# Altium footprint library Audio-Power-amlifier.PCBLIB: 50 footprints (part 1 of 4)
Each footprint in its own frame and in the unit in brackets; x right, y up, seen from the top. Pads: shape width x height; smd on the part's side, far side on the other; paste and mask are expansions set on the pad; w line width, h text height; cw(c..) or ccw(c..) is an arc to the next point about the centre after c.
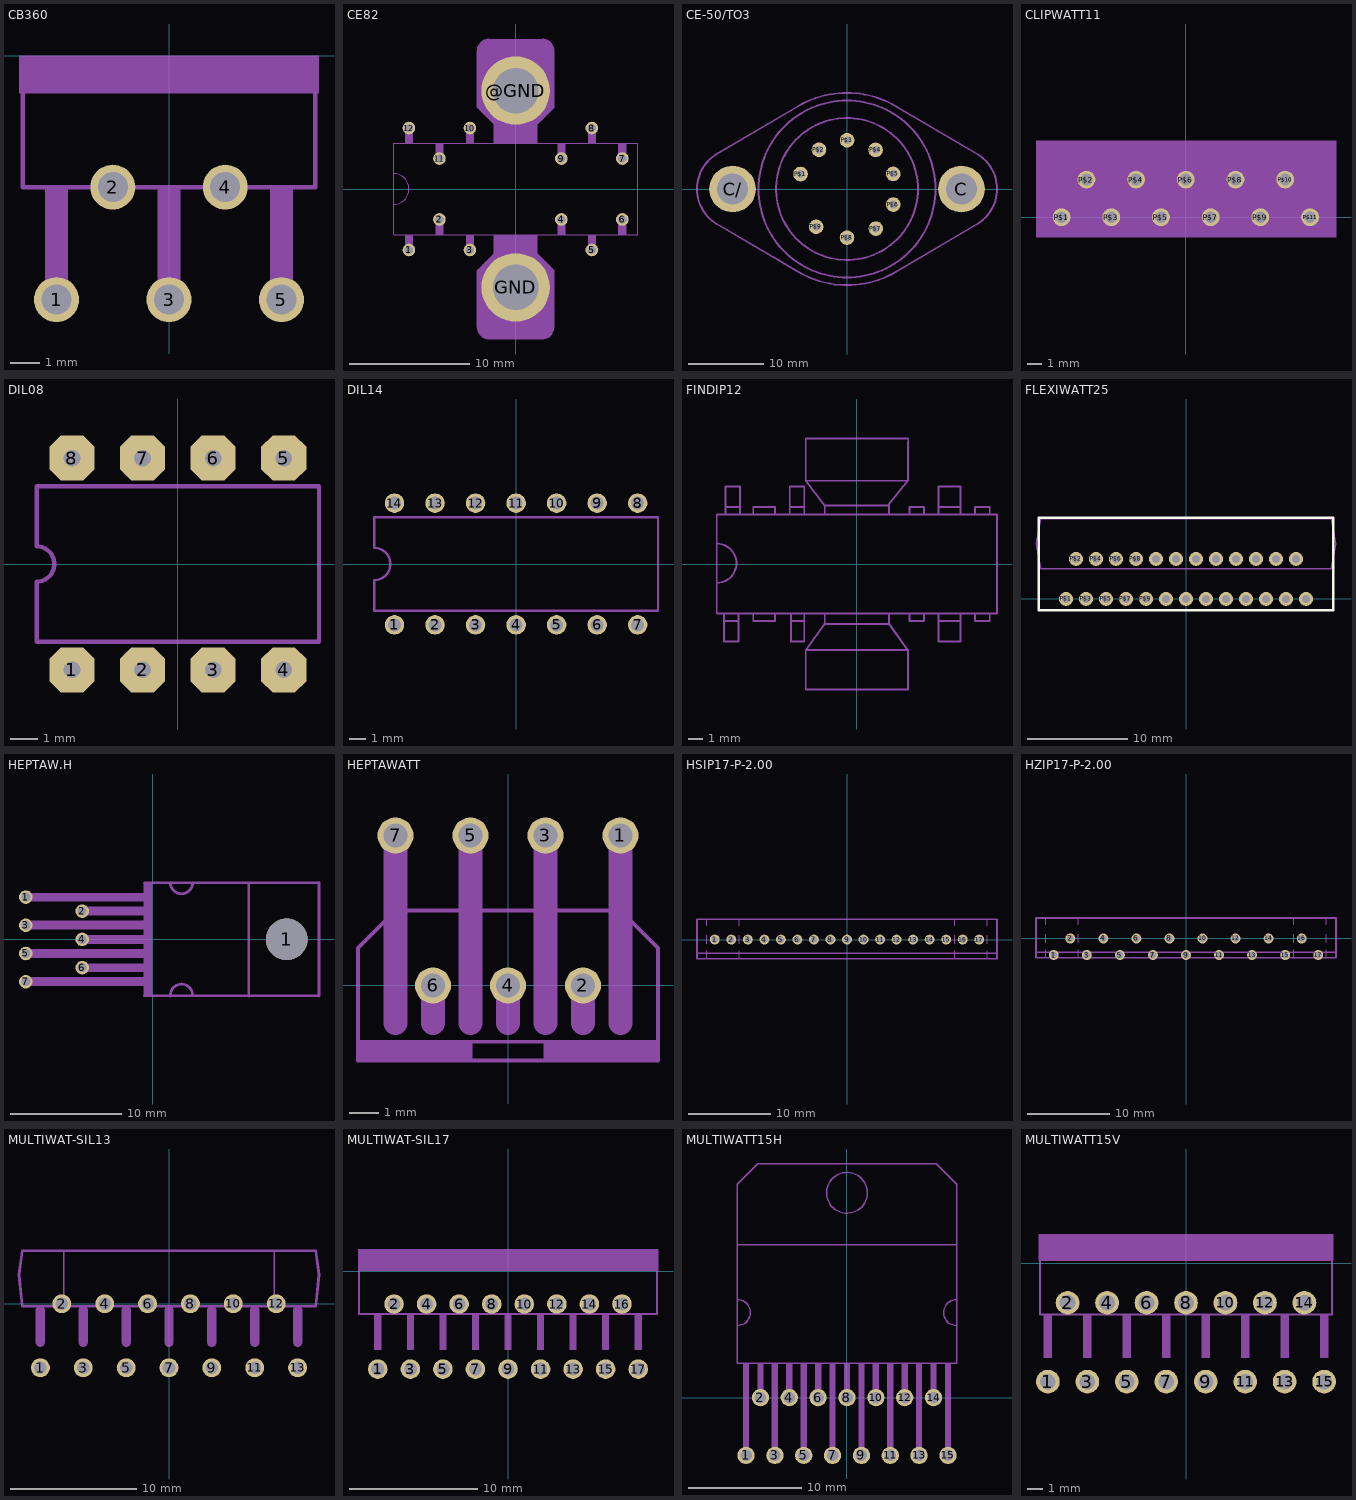
[diagram p0: the footprints below, top view; thin cyan lines are the x and y axes]

## CB360 [mil]
pads (5):
  round 60 hole 40: 1(-150,-325) 2(-75,-175) 3(0,-325) 4(75,-175) 5(150,-325)
Mechanical 8:
  region: -165,-330 -165,-275 -135,-275 -135,-330
  region: -15,-330 -15,-275 15,-275 15,-330
  region: 135,-330 135,-275 165,-275 165,-330
  lines w6: -125,-175 -25,-175 ; 25,-175 125,-175
Mechanical 22:
  region: -200,-50 -200,0 200,0 200,-50
  region: -165,-275 -165,-175 -135,-175 -135,-275
  region: -15,-275 -15,-175 15,-175 15,-275
  region: 135,-275 135,-175 165,-175 165,-275
  lines w6: -195,-50 -195,-175 -125,-175 ; -25,-175 25,-175 ; 125,-175 195,-175 195,-50

## CE82 [mil]
pads (18):
  round 41.34 / inner round 60 / far side round 41.34 hole 27.56: 1(-350,-200) 2(-250,-100) 3(-150,-200) 4(150,-100) 5(250,-200) 6(350,-100) 7(350,100) 8(250,200) 9(150,100) 10(-150,200) 11(-250,100) 12(-350,200)
  round 224.41 / inner round 60 / far side round 224.41 hole 149.61: @GND(0,322.83) GND(0,-322.83)
  round 10 / inner round 60 / far side round 10 all layers, no hole: P$1(-83.46,323.62) P$2(85.43,317.72) P$3(-81.89,-329.53) P$4(83.46,-330.32)
Mechanical 22:
  drawing of 275 lines, arcs and shapes, not listed

## CE-50/TO3 [mil]
pads (11):
  round 243 / inner round 60 / far side round 243 hole 162: C(595,0) C/(-595,0)
  round 76 / inner round 60 / far side round 76 hole 39.37: P$1(-241.73,77.95) P$2(-145.67,204.33) P$3(0.39,253.54) P$4(148.43,203.15) P$5(240.16,78.35) P$6(240.55,-80.71) P$7(150,-205.91) P$8(0,-253.15) P$9(-160.63,-196.85)
Mechanical 8:
  circle w6: c595,0 r85
  circle w6: c-595,0 r85
Mechanical 22:
  circle w10: c0,0 r369
  circle w10: c0,0 r460
  lines w10: -680,180 -250,433 ; -679,-181 -234,-442 ; -675.41,-183.35 cw(c-567,0) -780,0 cw(c-567,0) -672.94,184.78 ; -250.86,432.52 cw(c-0.01,0) 0,500 cw(c0.01,-0.01) 235.3,441.18 ; -235.3,-441.18 ccw(c-0.01,0.01) 0,-500 ccw(c0.01,0) 250.86,-432.52 ; 235,441 684,178 ; 251,-433 684,-178 ; 682.54,-178.94 ccw(c567,0) 780,0 ccw(c567,0) 682.54,178.94

## CLIPWATT11 [mil]
pads (11):
  round 47.25 / inner round 60 / far side round 47.25 hole 31.5: P$1(-330,0) P$2(-264,100) P$3(-198,0) P$4(-132,100) P$5(-66,0) P$6(0,100) P$7(66,0) P$8(132,100) P$9(198,0) P$10(264,100) P$11(330,0)
Mechanical 22:
  drawing of 91 lines, arcs and shapes, not listed
Mechanical 30:
  region: -398,-53 -398,203 399,203 399,-53

## DIL08 [mil]
pads (8):
  oct 63.9x63.9 / inner oct 60x60 / far side oct 63.9x63.9 hole 23.62: 1(-150,-150) 2(-50,-150) 3(50,-150) 4(150,-150) 5(150,150) 6(50,150) 7(-50,150) 8(-150,150)
Mechanical 22:
  lines w6: -200,-110 200,-110 200,110 -200,110 -200,25 cw(c-200,0) -200,-25 -200,-110

## DIL14 [mil]
pads (14):
  round 48 / inner round 60 / far side round 48 hole 32: 1(-300,-150) 2(-200,-150) 3(-100,-150) 4(0,-150) 5(100,-150) 6(200,-150) 7(300,-150) 8(300,150) 9(200,150) 10(100,150) 11(0,150) 12(-100,150) 13(-200,150) 14(-300,150)
Mechanical 22:
  lines w6: -350,-115 -350,-40 ccw(c-350,0) -350,40 -350,115 350,115 350,-115 -350,-115

## FINDIP12 [mil]
Mechanical 1:
  lines w5: -358.27,-208.66 -358.27,-153.54 ; -354.33,-208.66 -318.9,-208.66 -318.9,-153.54 ; 82.68,157.48 -86.61,157.48 ; 137.8,338.58 -137.8,338.58 -137.8,224.41 ; 138.58,334.65 137.8,326.77 137.8,224.41 ; -377.95,-51.18 ccw(c-377.95,1.97) -377.95,55.12 ; -377.95,-51.18 -377.95,55.12 ; -377.95,-51.18 -377.95,-133.86 -358.27,-133.86 ; -377.95,55.12 -377.95,133.86 -354.33,133.86 ; -358.27,-153.54 -318.9,-153.54 ; -358.27,-153.54 -358.27,-133.86 ; -358.27,-133.86 -318.9,-133.86 ; -354.33,133.86 -354.33,153.54 ; -354.33,133.86 -314.96,133.86 ; -354.33,153.54 -314.96,153.54 ; -354.33,153.54 -354.33,208.66 -314.96,208.66 -314.96,153.54 ; -318.9,-153.54 -318.9,-133.86 ; -318.9,-133.86 -279.53,-133.86 ; -314.96,133.86 -314.96,153.54 ; -314.96,133.86 -279.53,133.86 ; -279.53,-133.86 -279.53,-153.54 -220.47,-153.54 -220.47,-133.86 ; -279.53,-133.86 -220.47,-133.86 ; -279.53,133.86 -279.53,153.54 -220.47,153.54 -220.47,133.86 ; -279.53,133.86 -220.47,133.86 ; -220.47,-133.86 -177.17,-133.86 ; -220.47,133.86 -181.1,133.86 ; -181.1,133.86 -181.1,153.54 ; -181.1,133.86 -141.73,133.86 ; -181.1,153.54 -141.73,153.54 ; -181.1,153.54 -181.1,208.66 -141.73,208.66 -141.73,153.54 ; -177.17,-153.54 -141.73,-153.54 ; -177.17,-153.54 -177.17,-133.86 ; -177.17,-153.54 -177.17,-208.66 -141.73,-208.66 -141.73,-153.54 ; -177.17,-133.86 -141.73,-133.86 ; -141.73,-153.54 -141.73,-133.86 ; -141.73,-133.86 -86.61,-133.86 ; -141.73,133.86 -141.73,153.54 ; -141.73,133.86 -86.61,133.86 ; -137.8,-232.28 -86.61,-161.42 ; -137.8,-232.28 137.8,-232.28 ; -137.8,-232.28 -137.8,-338.58 137.8,-338.58 137.8,-232.28 ; -137.8,224.41 -86.61,157.48 ; -137.8,224.41 137.8,224.41 ; -86.61,-161.42 86.61,-161.42 ; -86.61,-161.42 -86.61,-133.86 ; -86.61,-133.86 86.61,-133.86 ; -86.61,133.86 -86.61,157.48 ; -86.61,133.86 86.61,133.86 ; 86.61,-161.42 86.61,-133.86 ; 86.61,-161.42 137.8,-232.28 ; 86.61,-133.86 141.73,-133.86 ; 86.61,133.86 86.61,161.42 137.8,224.41 ; 86.61,133.86 141.73,133.86 ; 141.73,-133.86 141.73,-153.54 181.1,-153.54 181.1,-133.86 ; 141.73,-133.86 181.1,-133.86 ; 141.73,133.86 141.73,153.54 181.1,153.54 181.1,133.86 ; 141.73,133.86 181.1,133.86 ; 181.1,-133.86 220.47,-133.86 ; 181.1,133.86 220.47,133.86 ; 220.47,-153.54 279.53,-153.54 ; 220.47,-153.54 220.47,-133.86 ; 220.47,-153.54 220.47,-208.66 279.53,-208.66 279.53,-153.54 ; 220.47,-133.86 279.53,-133.86 ; 220.47,133.86 220.47,153.54 ; 220.47,133.86 279.53,133.86 ; 220.47,153.54 279.53,153.54 ; 220.47,153.54 220.47,208.66 279.53,208.66 279.53,153.54 ; 279.53,-153.54 279.53,-133.86 ; 279.53,-133.86 318.9,-133.86 ; 279.53,133.86 279.53,153.54 ; 279.53,133.86 318.9,133.86 ; 318.9,-133.86 318.9,-153.54 358.27,-153.54 358.27,-133.86 ; 318.9,-133.86 358.27,-133.86 ; 318.9,133.86 318.9,153.54 358.27,153.54 358.27,133.86 ; 318.9,133.86 358.27,133.86 ; 358.27,-133.86 377.95,-133.86 377.95,133.86 358.27,133.86

## FLEXIWATT25 [mm]
pads (25):
  round 1.4 / inner round 1.524 / far side round 1.219 hole 0.813: P$1(-12,0) P$2(-11,4) P$3(-10,0) P$4(-9,4) P$5(-8,0) P$6(-7,4) P$7(-6,0) P$8(-5,4) P$9(-4,0) P$10(-3,4) P$11(-2,0) P$12(-1,4) P$13(0,0) P$14(1,4) P$15(2,0) P$16(3,4) P$17(4,0) P$18(5,4) P$19(6,0) P$20(7,4) P$21(8,0) P$22(9,4) P$23(10,0) P$24(11,4) P$25(12,0)
Top Overlay:
  lines w0.254: -14.732,-1.143 14.732,-1.143 14.732,8.128 -14.732,8.128 -14.732,-1.143
Mechanical 22:
  lines w0.127: -15,5.5 -14.5,3 14.5,3 15,5.5 14.5,8 -14.5,8 -15,5.5
3D body "User Library-TDA7850-2.STEP": height 19.7, standoff -2.77, extent -14.605,-0.16 14.625,8.034

## HEPTAW.H [mil]
pads (8):
  round 48 / inner round 60 / far side round 48 hole 32: 1(-450,150) 2(-250,100) 3(-450,50) 4(-250,0) 5(-450,-50) 6(-250,-100) 7(-450,-150)
  round 147.64 hole 147.64 unplated: 1(474.41,0)
Mechanical 1:
  lines w10: 62.2,-200.79 cw(c101.57,-198.03) 140.94,-195.28 ; 62.2,200.79 ccw(c101.57,200.79) 140.94,200.79 ; 339.76,-201.18 339.76,198.82 ; 588.98,-198.43 588.98,201.57
Mechanical 22:
  region: -4.72,-200 -29.72,-200 -29.72,-175 -4.72,-175
  region: -4.72,175 -29.72,175 -29.72,200 -4.72,200
  region: -4.72,50 -29.72,50 -29.72,175 -4.72,175
  region: -4.72,-200 -29.72,-200 -29.72,-50 -4.72,-50
  region: -4.72,-62.99 -29.72,-62.99 -29.72,62.01 -4.72,62.01
  lines w5: -29.72,-175 -29.72,-200 -4.72,-200 -4.72,-175 ; -29.72,-175 -29.72,-50 ; -29.72,-175 -4.72,-175 ; -29.72,-50 -29.72,50 ; -29.72,-50 -20.87,-50 -4.72,-50 ; -29.72,50 -29.72,175 ; -29.72,50 -4.72,50 -4.72,-50 ; -29.72,175 -29.72,200 -4.72,200 -4.72,175 ; -29.72,175 -4.72,175 ; -4.72,-175 -4.72,-50 ; -4.72,-50 -4.72,175
  lines w10: -29.72,-200 588.98,-200.39 ; -29.72,200 588.58,201.57
  lines w32: -450,-150 -23.62,-149.21 ; -450,-50 -20.87,-50 ; -450,50 -25.2,50.79 ; -450,150 -24.02,148.82 ; -250,-100 -25.2,-101.18 ; -250,0 -23.23,0 ; -250,100 -25.2,101.18

## HEPTAWATT [mil]
pads (7):
  round 48 / inner round 60 / far side round 48 hole 32: 1(150,200) 2(100,0) 3(50,200) 4(0,0) 5(-50,200) 6(-100,0) 7(-150,200)
Mechanical 22:
  region: -200,-100 -200,-75 -175,-75 -175,-100
  region: 175,-100 175,-75 200,-75 200,-100
  region: 50,-100 50,-75 175,-75 175,-100
  region: -200,-100 -200,-75 -50,-75 -50,-100
  lines w5: -200,-75 -200,-100 -175,-100 ; -200,-75 -200,50 -150,100 150,100 200,50 200,-75 ; -200,-75 -175,-75 ; -175,-100 -50,-100 ; -175,-100 -175,-75 ; -175,-75 -50,-75 ; -50,-100 175,-100 ; -50,-100 -50,-75 ; -50,-100 50,-100 50,-75 ; -50,-75 50,-75 ; 50,-75 175,-75 ; 175,-100 200,-100 200,-75 ; 175,-100 175,-75 ; 175,-75 200,-75
  lines w32: -150,-50 -150,200 ; -100,-50 -100,0 ; -50,-50 -50,200 ; 0,-50 0,0 ; 50,-50 50,200 ; 100,-50 100,0 ; 150,-50 150,200

## HSIP17-P-2.00 [mil]
pads (17):
  round 47.24 / inner round 60 / far side round 47.24 hole 31.5: 1(-629.92,0) 2(-551.18,0) 3(-472.44,0) 4(-393.7,0) 5(-314.96,0) 6(-236.22,0) 7(-157.48,0) 8(-78.74,0) 9(0,0) 10(78.74,0) 11(157.48,0) 12(236.22,0) 13(314.96,0) 14(393.7,0) 15(472.44,0) 16(551.18,0) 17(629.92,0)
Mechanical 22:
  lines w4: -667.32,-88.58 -667.32,-53.15 ; -667.32,-20.67 -667.32,20.67 ; -667.32,65.94 -667.32,93.5 ; -513.78,-88.58 -513.78,-53.15 ; -513.78,-20.67 -513.78,20.67 ; -513.78,65.94 -513.78,93.5 ; 513.78,-88.58 513.78,-53.15 ; 513.78,-20.67 513.78,20.67 ; 513.78,65.94 513.78,93.5 ; 667.32,-88.58 667.32,-53.15 ; 667.32,-20.67 667.32,20.67 ; 667.32,65.94 667.32,93.5
  lines w8: -714.57,-64.96 -714.57,-91.54 714.57,-91.54 714.57,-64.96 ; -714.57,-64.96 -714.57,97.44 714.57,97.44 714.57,-64.96 ; -714.57,-64.96 714.57,-64.96

## HZIP17-P-2.00 [mil]
pads (17):
  round 47.24 / inner round 60 / far side round 47.24 hole 31.5: 1(-629.92,-78.74) 2(-551.18,0) 3(-472.44,-78.74) 4(-393.7,0) 5(-314.96,-78.74) 6(-236.22,0) 7(-157.48,-78.74) 8(-78.74,0) 9(0,-78.74) 10(78.74,0) 11(157.48,-78.74) 12(236.22,0) 13(314.96,-78.74) 14(393.7,0) 15(472.44,-78.74) 16(551.18,0) 17(629.92,-78.74)
Mechanical 8:
  lines w8: -714.57,-91.54 714.57,-91.54 ; -714.57,-64.96 714.57,-64.96
Mechanical 22:
  lines w4: -667.32,-88.58 -667.32,-53.15 ; -667.32,-20.67 -667.32,20.67 ; -667.32,65.94 -667.32,93.5 ; -513.78,-88.58 -513.78,-53.15 ; -513.78,-20.67 -513.78,20.67 ; -513.78,65.94 -513.78,93.5 ; 513.78,-88.58 513.78,-53.15 ; 513.78,-20.67 513.78,20.67 ; 513.78,65.94 513.78,93.5 ; 667.32,-88.58 667.32,-53.15 ; 667.32,-20.67 667.32,20.67 ; 667.32,65.94 667.32,93.5
  lines w8: -669.29,-91.54 -714.57,-91.54 -714.57,-64.96 ; -669.29,-64.96 -714.57,-64.96 ; -590.55,-91.54 -511.81,-91.54 ; -590.55,-64.96 -511.81,-64.96 ; -433.07,-91.54 -354.33,-91.54 ; -433.07,-64.96 -354.33,-64.96 ; -275.59,-91.54 -196.85,-91.54 ; -275.59,-64.96 -196.85,-64.96 ; -118.11,-91.54 -39.37,-91.54 ; -118.11,-64.96 -39.37,-64.96 ; 39.37,-91.54 118.11,-91.54 ; 39.37,-64.96 118.11,-64.96 ; 196.85,-91.54 275.59,-91.54 ; 196.85,-64.96 275.59,-64.96 ; 354.33,-91.54 433.07,-91.54 ; 354.33,-64.96 433.07,-64.96 ; 511.81,-91.54 590.55,-91.54 ; 511.81,-64.96 590.55,-64.96 ; 669.29,-91.54 714.57,-91.54 714.57,-64.96 ; 669.29,-64.96 714.57,-64.96 ; -714.57,-64.96 -714.57,97.44 714.57,97.44 714.57,-64.96

## MULTIWAT-SIL13 [mm]
pads (13):
  round 1.5 / inner round 1.524 / far side round 1.5 hole 1: 1(-10.2,-5.08) 2(-8.5,0) 3(-6.8,-5.08) 4(-5.1,0) 5(-3.4,-5.08) 6(-1.7,0) 7(0,-5.08) 8(1.7,0) 9(3.4,-5.08) 10(5.1,0) 11(6.8,-5.08) 12(8.5,0) 13(10.2,-5.08)
Mechanical 8:
  lines w0.203: -9.52,-0.2 -7.48,-0.2 ; -6.12,-0.2 -4.08,-0.2 ; -2.72,-0.2 -0.68,-0.2 ; 0.68,-0.2 2.72,-0.2 ; 4.08,-0.2 6.12,-0.2 ; 7.48,-0.2 9.52,-0.2
Mechanical 22:
  lines w0.203: -9.52,-0.2 -11.65,-0.2 -11.9,2.3 -11.65,4.2 11.65,4.2 11.9,2.3 11.65,-0.2 9.52,-0.2 ; -7.48,-0.2 -6.12,-0.2 ; -4.08,-0.2 -2.72,-0.2 ; -0.68,-0.2 0.68,-0.2 ; 2.72,-0.2 4.08,-0.2 ; 6.12,-0.2 7.48,-0.2
  lines w0.75: -10.2,-3.06 -10.2,-0.51 ; -6.8,-3.06 -6.8,-0.51 ; -3.4,-3.06 -3.4,-0.51 ; 0,-3.06 0,-0.51 ; 3.4,-3.06 3.4,-0.51 ; 6.8,-3.06 6.8,-0.51 ; 10.2,-3.06 10.2,-0.51
Mechanical 34:
  lines w0.102: -8.35,-0.1 -8.35,4.1 ; 8.35,-0.1 8.35,4.1

## MULTIWAT-SIL17 [mil]
pads (17):
  round 60 hole 40: 1(-400,-300) 2(-350,-100) 3(-300,-300) 4(-250,-100) 5(-200,-300) 6(-150,-100) 7(-100,-300) 8(-50,-100) 9(0,-300) 10(50,-100) 11(100,-300) 12(150,-100) 13(200,-300) 14(250,-100) 15(300,-300) 16(350,-100) 17(400,-300)
Mechanical 8:
  region: -410,-240 -410,-130 -390,-130 -390,-240
  region: -310,-240 -310,-130 -290,-130 -290,-240
  region: -210,-240 -210,-130 -190,-130 -190,-240
  region: -110,-240 -110,-130 -90,-130 -90,-240
  region: -10,-240 -10,-130 10,-130 10,-240
  region: 90,-240 90,-130 110,-130 110,-240
  region: 190,-240 190,-130 210,-130 210,-240
  region: 290,-240 290,-130 310,-130 310,-240
  region: 390,-240 390,-130 410,-130 410,-240
  lines w6: -410,-130 -310,-130 ; 310,-130 -310,-130 ; 410,-130 -310,-130
Mechanical 22:
  region: -460.63,1.97 -460.63,68.9 460.63,68.9 460.63,1.97
  lines w6: -457.4,10 -457.4,-130 -410,-130 ; 310,-130 457.4,-130 457.4,10

## MULTIWATT15H [mil]
pads (15):
  round 60 hole 40: 1(-350,-200) 2(-300,0) 3(-250,-200) 4(-200,0) 5(-150,-200) 6(-100,0) 7(-50,-200) 8(0,0) 9(50,-200) 10(100,0) 11(150,-200) 12(200,0) 13(250,-200) 14(300,0) 15(350,-200)
Mechanical 22:
  circle w5: c0,710 r70.71
  region: -310,0 -310,120 -290,120 -290,0
  region: -210,0 -210,120 -190,120 -190,0
  region: -110,0 -110,120 -90,120 -90,0
  region: 90,0 90,120 110,120 110,0
  region: 190,0 190,120 210,120 210,0
  region: 290,0 290,120 310,120 310,0
  region: -10,0 -10,120 10,120 10,0
  region: -260,-200 -260,120 -240,120 -240,-200
  region: -160,-200 -160,120 -140,120 -140,-200
  region: -60,-200 -60,120 -40,120 -40,-200
  region: 40,-200 40,120 60,120 60,-200
  region: 140,-200 140,120 160,120 160,-200
  region: 240,-200 240,120 260,120 260,-200
  region: 340,-200 340,120 360,120 360,-200
  region: -360,-200 -360,120 -340,120 -340,-200
  lines w5: -380,250 ccw(c-380,295) -380,340 ; -380,250 -380,120 380,120 380,250 ; -380,250 -380,340 ; -380,340 -380,530 ; -380,530 -380,740 -310,810 310,810 380,740 380,530 ; -380,530 380,530 ; 380,250 cw(c380,295) 380,340 ; 380,250 380,340 ; 380,340 380,530

## MULTIWATT15V [mil]
pads (15):
  round 60 hole 40: 1(-350,-300) 2(-300,-100) 3(-250,-300) 4(-200,-100) 5(-150,-300) 6(-100,-100) 7(-50,-300) 8(0,-100) 9(50,-300) 10(100,-100) 11(150,-300) 12(200,-100) 13(250,-300) 14(300,-100) 15(350,-300)
Mechanical 8:
  region: 340,-240 340,-130 360,-130 360,-240
  region: 240,-240 240,-130 260,-130 260,-240
  region: 140,-240 140,-130 160,-130 160,-240
  region: 40,-240 40,-130 60,-130 60,-240
  region: -60,-240 -60,-130 -40,-130 -40,-240
  region: -160,-240 -160,-130 -140,-130 -140,-240
  region: -260,-240 -260,-130 -240,-130 -240,-240
  region: -360,-240 -360,-130 -340,-130 -340,-240
  lines w6: -360,-130 360,-130
Mechanical 22:
  region: -373.03,6.89 -373.03,72.83 373.03,72.83 373.03,6.89
  lines w6: -370,10 -370,-130 -360,-130 ; 360,-130 370,-130 370,10